# Altium footprint library mainBoard.PcbLib: 22 footprints (part 1 of 2)
Each footprint in its own frame and in the unit in brackets; x right, y up, seen from the top. Pads: shape width x height; smd on the part's side, far side on the other; paste and mask are expansions set on the pad; w line width, h text height; cw(c..) or ccw(c..) is an arc to the next point about the centre after c.
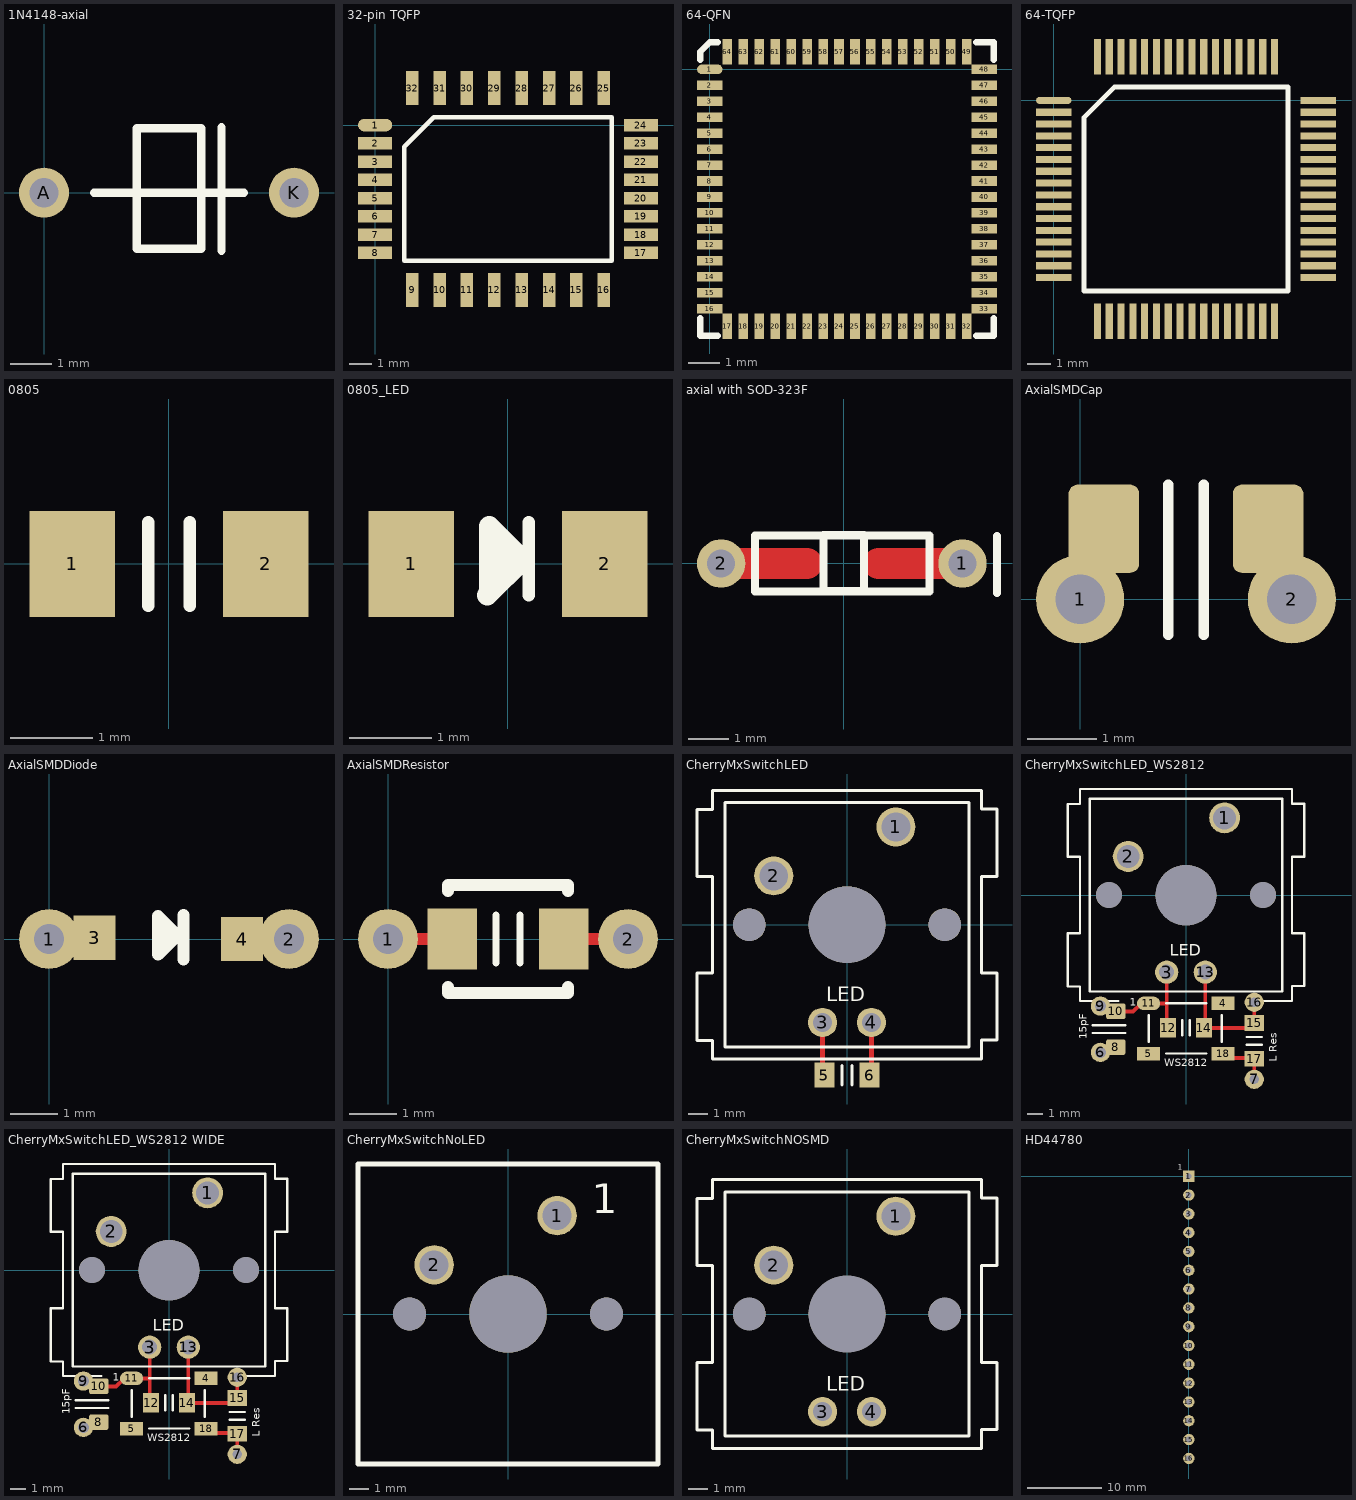
[diagram p0: the footprints below, top view; thin cyan lines are the x and y axes]

## 1N4148-axial [mm]
pads (2):
  round 1.2 hole 0.7: A(0,0) K(6,0)
Top Overlay:
  lines w0.2: 1.2,0 3.775,0 ; 2.225,0 4.8,0 ; 4.258,-1.397 4.258,1.575 ; 3.775,0 3.775,-1.346 2.225,-1.346 2.225,1.549 3.775,1.549 3.775,0

## 32-pin TQFP [mm]
pads (32):
  oval 1.5x0.55 smd: 1(0,0)
  rect 1.5x0.55 smd: 2(0,-0.8) 3(0,-1.6) 4(0,-2.4) 5(0,-3.2) 6(0,-4) 7(0,-4.8) 8(0,-5.6) 17(11.65,-5.6) 18(11.65,-4.8) 19(11.65,-4) 20(11.65,-3.2) 21(11.65,-2.4) 22(11.65,-1.6) 23(11.65,-0.8) 24(11.65,0)
  rect 0.55x1.5 smd: 9(1.625,-7.225) 10(2.825,-7.225) 11(4.025,-7.225) 12(5.225,-7.225) 13(6.425,-7.225) 14(7.625,-7.225) 15(8.825,-7.225) 16(10.025,-7.225) 25(10.025,1.625) 26(8.825,1.625) 27(7.625,1.625) 28(6.425,1.625) 29(5.225,1.625) 30(4.025,1.625) 31(2.825,1.625) 32(1.625,1.625)
Top Overlay:
  lines w0.2: 1.285,-5.94 1.285,-0.945 2.57,0.34 10.365,0.34 10.365,-5.94 1.285,-5.94

## 64-QFN [mm]
pads (64):
  oval 0.8x0.3 smd: 1(0,0)
  rect 0.8x0.3 smd: 2(0,-0.5) 3(0,-1) 4(0,-1.5) 5(0,-2) 6(0,-2.5) 7(0,-3) 8(0,-3.5) 9(0,-4) 10(0,-4.5) 11(0,-5) 12(0,-5.5) 13(0,-6) 14(0,-6.5) 15(0,-7) 16(0,-7.5) 33(8.6,-7.5) 34(8.6,-7) 35(8.6,-6.5) 36(8.6,-6) 37(8.6,-5.5) 38(8.6,-5) 39(8.6,-4.5) 40(8.6,-4) 41(8.6,-3.5) 42(8.6,-3) 43(8.6,-2.5) 44(8.6,-2) 45(8.6,-1.5) 46(8.6,-1) 47(8.6,-0.5) 48(8.6,0)
  rect 0.3x0.8 smd: 17(0.55,-8.05) 18(1.05,-8.05) 19(1.55,-8.05) 20(2.05,-8.05) 21(2.55,-8.05) 22(3.05,-8.05) 23(3.55,-8.05) 24(4.05,-8.05) 25(4.55,-8.05) 26(5.05,-8.05) 27(5.55,-8.05) 28(6.05,-8.05) 29(6.55,-8.05) 30(7.05,-8.05) 31(7.55,-8.05) 32(8.05,-8.05) 49(8.05,0.55) 50(7.55,0.55) 51(7.05,0.55) 52(6.55,0.55) 53(6.05,0.55) 54(5.55,0.55) 55(5.05,0.55) 56(4.55,0.55) 57(4.05,0.55) 58(3.55,0.55) 59(3.05,0.55) 60(2.55,0.55) 61(2.05,0.55) 62(1.55,0.55) 63(1.05,0.55) 64(0.55,0.55)
Top Overlay:
  lines w0.2: -0.3,-7.8 -0.3,-8.35 0.25,-8.35 ; -0.3,0.3 -0.3,0.55 0,0.85 0.25,0.85 ; 8.35,-8.35 8.9,-8.35 8.9,-7.8 ; 8.35,0.85 8.9,0.85 8.9,0.3

## 64-TQFP [mm]
pads (64):
  oval 1.5x0.3 smd: 1(0,0)
  rect 1.5x0.3 smd: 2(0,-0.5) 3(0,-1) 4(0,-1.5) 5(0,-2) 6(0,-2.5) 7(0,-3) 8(0,-3.5) 9(0,-4) 10(0,-4.5) 11(0,-5) 12(0,-5.5) 13(0,-6) 14(0,-6.5) 15(0,-7) 16(0,-7.5) 33(11.2,-7.5) 34(11.2,-7) 35(11.2,-6.5) 36(11.2,-6) 37(11.2,-5.5) 38(11.2,-5) 39(11.2,-4.5) 40(11.2,-4) 41(11.2,-3.5) 42(11.2,-3) 43(11.2,-2.5) 44(11.2,-2) 45(11.2,-1.5) 46(11.2,-1) 47(11.2,-0.5) 48(11.2,0)
  rect 0.3x1.5 smd: 17(1.85,-9.35) 18(2.35,-9.35) 19(2.85,-9.35) 20(3.35,-9.35) 21(3.85,-9.35) 22(4.35,-9.35) 23(4.85,-9.35) 24(5.35,-9.35) 25(5.85,-9.35) 26(6.35,-9.35) 27(6.85,-9.35) 28(7.35,-9.35) 29(7.85,-9.35) 30(8.35,-9.35) 31(8.85,-9.35) 32(9.35,-9.35) 49(9.35,1.85) 50(8.85,1.85) 51(8.35,1.85) 52(7.85,1.85) 53(7.35,1.85) 54(6.85,1.85) 55(6.35,1.85) 56(5.85,1.85) 57(5.35,1.85) 58(4.85,1.85) 59(4.35,1.85) 60(3.85,1.85) 61(3.35,1.85) 62(2.85,1.85) 63(2.35,1.85) 64(1.85,1.85)
Top Overlay:
  lines w0.2: 1.285,-8.065 1.285,-0.72 2.57,0.565 9.915,0.565 9.915,-8.065 1.285,-8.065

## 0805 [mil]
pads (2):
  rect 41x51 smd: 1(-46.5,0) 2(46.5,0)
Top Overlay:
  lines w6: -10,-20 -10,20 ; 10,-20 10,20

## 0805_LED [mil] "SMD LED"
pads (2):
  rect 41x51 smd: 1(-46.5,0) 2(46.5,0)
Top Overlay:
  lines w6: -10,-15 -10,15 ; 10,-15 10,20
  lines w10: -10,-15 7,2 -9,18 -9,-14 ; -3,1 -3,3

## axial with SOD-323F [mm]
pads (2):
  round 1.2 hole 0.7: 1(2.952,0) 2(-3.048,0)
Top Layer:
  lines w0.762: -3.048,0 -0.914,0 ; 0.864,0 2.921,0
Top Overlay:
  lines w0.2: 3.81,-0.737 3.81,0.686 ; -2.21,-0.7 -2.21,0.089 -2.21,0.7 2.134,0.7 2.134,-0.7 -2.21,-0.7 ; -0.508,-0.686 -0.508,0.711 0.508,0.711 0.508,0.244 0.508,-0.686 -0.508,-0.686
Top Solder:
  rectangle: 0.686,-0.356 1.93,0.406
  rectangle: -1.981,-0.356 -0.737,0.406

## AxialSMDCap [mil]
pads (4):
  round 50 hole 28: 1(0,0) 2(120,0)
  rrect25% 40x50 smd: ""(13.5,40) ""(106.5,40)
Top Overlay:
  lines w6: 50,-20 50,65 ; 70,-20 70,65

## AxialSMDDiode [mil]
pads (4):
  round 50 hole 25: 1(0,0) 2(200,0)
  rect 35x37 smd: 3(38,1) 4(161,0)
Top Layer:
  lines w10: 0,0 50,0 ; 152,0 200,0
Top Overlay:
  lines w6: 91,-14.53 91,19
  lines w10: 91,3 99,3 101,1 ; 91,18 91,-13 105,1 109,1 91,19 ; 112,-17 112,20

## AxialSMDResistor [mil]
pads (4):
  round 50 hole 25: 1(0,0) 2(200,0)
  rect 41x51 smd: ""(53.5,0) ""(146.5,0)
Top Layer:
  lines w10: 0,0 50,0 ; 145,0 200,0
Top Overlay:
  lines w6: 90,-20 90,20 ; 110,-20 110,20
  lines w10: 50,-40 50,-45 150,-45 150,-40 ; 50,40 50,45 150,45 150,40

## CherryMxSwitchLED [mil] "Cherry Mx Switch  With an LED"
pads (9):
  round 80 hole 59: 1(100,200) 2(-150,100)
  round 60 hole 39: 3(-50,-200) 4(50,-200)
  rect 41x51 smd: 5(-46.5,-308) 6(46.5,-308)
  round 67 hole 67: ""(-200,0) ""(200,0)
  round 157 hole 157 unplated: ""(0,0)
Top Layer:
  lines w10: -50,-200 -50,-308 -42,-316 ; 50,-308 50,-200
Top Overlay:
  lines w6: -10,-328 -10,-288 ; 10,-328 10,-288 ; 275,-99 307,-99 307,-236 275,-236 275,-275 -275,-275 -275,-237 -307,-237 -307,-99 -275,-99 -275,99 -307,99 -307,236 -275,236 -275,275 275,275 275,237 307,237 307,99 275,99 275,-98.6 ; -250,-250 -250,250 0,250 250,250 250,-250 -250,-250
  text "LED" at -42,-157 h30

## CherryMxSwitchLED_WS2812 [mil] "Cherry Mx Switch  With an LED and WS2812 footprint"
pads (21):
  round 80 hole 59: 1(100,200) 2(-150,100)
  round 60 hole 39: 3(-50,-200) 13(50,-200)
  rect 60x35 smd: 4(96,-281) 5(-97,-411) 18(96,-411)
  round 50 hole 28: 6(-222,-408) 9(-222,-288)
  round 50 hole 25: 7(177,-478) 16(177,-278)
  rrect25% 50x40 smd: 8(-182,-394.5) 10(-182,-301.5)
  oval 60x35 smd: 11(-97,-281)
  rect 41x51 smd: 12(-46.5,-344) 14(46.5,-344)
  rect 51x41 smd: 15(177,-331.5) 17(177,-424.5)
  round 67 hole 67: ""(-200,0) ""(200,0)
  round 157 hole 157 unplated: ""(0,0)
Top Layer:
  lines w10: -182,-302 -137,-302 -116,-281 -97,-281 ; -96,-281 -51,-281 ; -50,-347 -50,-200 ; -50,-344 -42,-352 ; 47,-345 170,-345 ; 50,-346 50,-200 ; 108,-423 178,-423 ; 177,-478 177,-423 ; 177,-328 177,-278
Top Overlay:
  lines w6: -242,-358 -157,-358 ; -242,-338 -157,-338 ; -176,-275 -275,-275 -275,-237 -307,-237 -307,-99 -275,-99 -275,99 -307,99 -307,236 -275,236 -275,275 275,275 275,237 307,237 307,99 275,99 275,-98.6 ; -97,-381 -97,-311 ; -52,-411 53,-411 ; -52,-281 53,-281 ; -10,-364 -10,-324 ; 10,-364 10,-324 ; 93,-381 93,-311 ; 157,-388 197,-388 ; 157,-368 197,-368 ; 181,-275 275,-275 275,-236 307,-236 307,-99 275,-99 ; -250,-250 -250,250 0,250 250,250 250,-250 -250,-250
  text "L Res" at 235,-432 h20
  text "15pF" at -258,-374 h20
  text "WS2812" at -56,-444 h20
  text "1" at -146,-287 h20
  text "LED" at -42,-157 h30

## CherryMxSwitchLED_WS2812 WIDE [mil] "Cherry Mx Switch  With an LED and WS2812 footprint, with an extra wide hole"
pads (21):
  round 80 hole 59: 1(100,200) 2(-150,100)
  round 60 hole 39: 3(-50,-200) 13(50,-200)
  rect 60x35 smd: 4(96,-281) 5(-97,-411) 18(96,-411)
  round 50 hole 28: 6(-222,-408) 9(-222,-288)
  round 50 hole 25: 7(177,-478) 16(177,-278)
  rrect25% 50x40 smd: 8(-182,-394.5) 10(-182,-301.5)
  oval 60x35 smd: 11(-97,-281)
  rect 41x51 smd: 12(-46.5,-344) 14(46.5,-344)
  rect 51x41 smd: 15(177,-331.5) 17(177,-424.5)
  round 67 hole 67: ""(-200,0) ""(200,0)
  round 157 hole 157 unplated: ""(0,0)
Top Layer:
  lines w10: -182,-302 -137,-302 -116,-281 -97,-281 ; -96,-281 -51,-281 ; -50,-347 -50,-200 ; -50,-344 -42,-352 ; 47,-345 170,-345 ; 50,-346 50,-200 ; 108,-423 178,-423 ; 177,-478 177,-423 ; 177,-328 177,-278
Top Overlay:
  lines w6: -242,-358 -157,-358 ; -242,-338 -157,-338 ; -176,-275 -275,-275 -275,-237 -307,-237 -307,-99 -275,-99 -275,99 -307,99 -307,236 -275,236 -275,275 275,275 275,237 307,237 307,99 275,99 275,-98.6 ; -97,-381 -97,-311 ; -52,-411 53,-411 ; -52,-281 53,-281 ; -10,-364 -10,-324 ; 10,-364 10,-324 ; 93,-381 93,-311 ; 157,-388 197,-388 ; 157,-368 197,-368 ; 181,-275 275,-275 275,-236 307,-236 307,-99 275,-99 ; -250,-250 250,-250 250,250 0,250 -250,250 -250,-250
  text "LED" at -42,-157 h30
  text "1" at -146,-287 h20
  text "WS2812" at -56,-444 h20
  text "15pF" at -258,-374 h20
  text "L Res" at 235,-432 h20

## CherryMxSwitchNoLED [mil] "Cherry Mx Switch  NO LED"
pads (5):
  round 80 hole 59: 1(100,200) 2(-150,100)
  round 67 hole 67: ""(-200,0) ""(200,0)
  round 157 hole 157 unplated: ""(0,0)
Top Overlay:
  lines w10: -305,-305 305,-305 305,305 -305,305 -305,-305
  text "1" at 170,205 h60

## CherryMxSwitchNOSMD [mil] "Cherry Mx Switch  With out smd led"
pads (7):
  round 80 hole 59: 1(100,200) 2(-150,100)
  round 60 hole 39: 3(-50,-200) 4(50,-200)
  round 67 hole 67: ""(-200,0) ""(200,0)
  round 157 hole 157 unplated: ""(0,0)
Top Overlay:
  lines w6: 275,-99 307,-99 307,-236 275,-236 275,-275 -275,-275 -275,-237 -307,-237 -307,-99 -275,-99 -275,99 -307,99 -307,236 -275,236 -275,275 275,275 275,237 307,237 307,99 275,99 275,-98.6 ; -250,-250 250,-250 250,250 0,250 -250,250 -250,-250
  text "LED" at -42,-157 h30

## HD44780 [mil] "HD44780 Display"
pads (16):
  rect 60x60 hole 30 square: 1(0,0)
  round 60 hole 30: 2(0,-100) 3(0,-200) 4(0,-300) 5(0,-400) 6(0,-500) 7(0,-600) 8(0,-700) 9(0,-800) 10(0,-900) 11(0,-1000) 12(0,-1100) 13(0,-1200) 14(0,-1300) 15(0,-1400) 16(0,-1500)
Top Overlay:
  text "1" at -60,35 h30